# Altium schematic symbol library HAL and MotorBoard.SchLib: 5 symbols
Pins are listed as number, name and electrical type; pins without a type are passive.

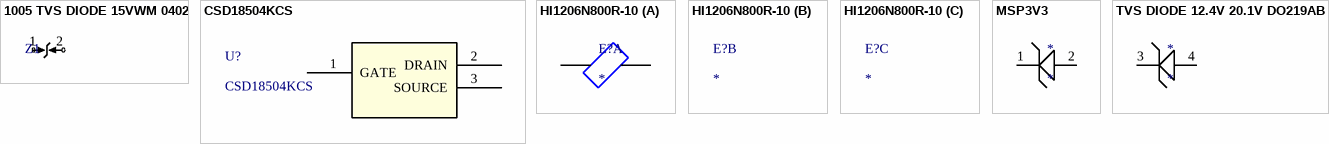
[diagram p0: symbols 1005 TVS DIODE 15VWM 0402 to TVS DIODE 12.4V 20.1V DO219AB]

## 1005 TVS DIODE 15VWM 0402
designator Z1, comment 1005  (value not drawn)
1005 TVS DIODE 15VWM 0402; Manufacturer: Murata Electronics North America; Manufacturer Part Number: LXES15AAA1-133; Digi-Key Part Number: 490-13209-1-ND; Digikey Link: https://www.digikey.com/product-detail/en/murata-electronics-north-america/LXES15AAA1-133/490-13209-1-ND/5843763; Murata DataSheet: http://www.murata.com/en-us/products/productdata/8796832759838/CRESD-E.pdf
footprint 1005  TVS DIODE 15VWM 0402 (1005 TVS DIODE 15VWM 0402)
pins: 1, 2

## CSD18504KCS
designator U?
No Description Available; Mfr_Name: Texas Instruments; Copyright: Copyright (C) 2021 Ultra Librarian. All rights reserved.; Manufacturer_Part_Number: CSD18504KCS; Digi-Key_Part_Number_1: 296-35578-5-ND; Digi-Key_Part_Number_2: 2156-CSD18504KCS-ND; RefDes: RefDes; Type: DEV
footprint KCS3_TEX
pins: 1 GATE, 2 DRAIN, 3 SOURCE

## HI1206N800R-10
designator E?
80 Ohms @ 100MHz 1 Power, Signal Line Ferrite Bead 1206 (3216 Metric) 3A 35mOhm; MF: Laird-Signal Integrity; MP: HI1206N800R-10; SnapEDA_Link: https://www.snapeda.com/parts/HI1206N800R-10/Laird-Signal%20Integrity%20Products/view-part/296889/?ref=snap; Purchase-URL: https://pricing.snapeda.com/search/part/HI1206N800R-10/?ref=eda; Check_prices: https://www.snapeda.com/parts/HI1206N800R-10/Laird-Signal%20Integrity%20Products/view-part/296889/?ref=eda; Value: *; Digi-Key_Part_Number: 240-2409-1-ND; Package: 1206 Laird-Signal Integrity
footprint FB_HI1206N800R-10
part A pins: 1, 2

## MSP3V3
designator *
footprint MSP3V3
pins: 1, 2

## TVS DIODE 12.4V 20.1V DO219AB
designator *
footprint TVS DIODE 12.4V 20.1V DO219AB
pins: 3, 4